# Altium footprint library MLACHM_M.PCBLIB: 91 footprints (part 5 of 7)
Each footprint in its own frame and in the unit in brackets; x right, y up, seen from the top. Pads: shape width x height; smd on the part's side, far side on the other; paste and mask are expansions set on the pad; w line width, h text height; cw(c..) or ccw(c..) is an arc to the next point about the centre after c.
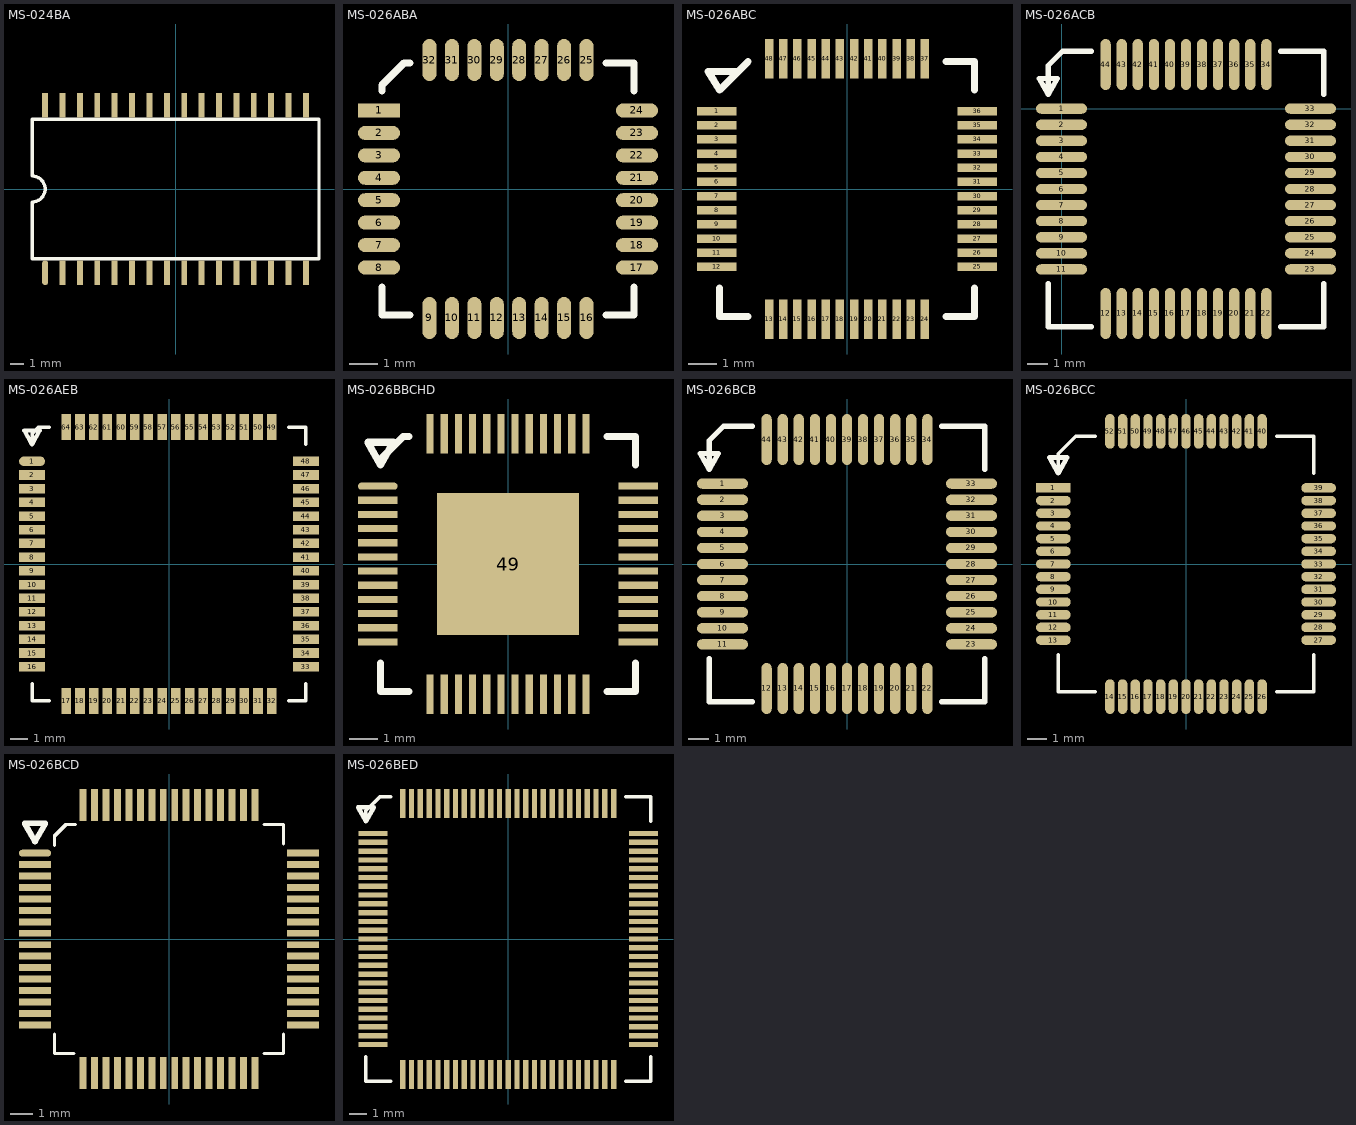
[diagram p4: the footprints below, top view; thin cyan lines are the x and y axes]

## MS-024BA [mil]
pads (32):
  oval 17x71 smd: 1(-375,-240.62)
  rect 17x71 smd: 2(-325,-240.62) 3(-275,-240.62) 4(-225,-240.62) 5(-175,-240.62) 6(-125,-240.62) 7(-75,-240.62) 8(-25,-240.62) 9(25,-240.62) 10(75,-240.62) 11(125,-240.62) 12(175,-240.62) 13(225,-240.62) 14(275,-240.62) 15(325,-240.62) 16(375,-240.62) 17(375,240.62) 18(325,240.62) 19(275,240.62) 20(225,240.62) 21(175,240.62) 22(125,240.62) 23(75,240.62) 24(25,240.62) 25(-25,240.62) 26(-75,240.62) 27(-125,240.62) 28(-175,240.62) 29(-225,240.62) 30(-275,240.62) 31(-325,240.62) 32(-375,240.62)
TopOverlay:
  lines w10: -412.5,-200 -412.5,-37.5 ccw(c-412.5,0) -412.5,37.5 -412.5,200 412.5,200 412.5,-200 -412.5,-200

## MS-026ABA [mm]
pads (32):
  rect 1.5x0.5 smd: 1(-4.6,2.8)
  oval 1.5x0.5 smd: 2(-4.6,2) 3(-4.6,1.2) 4(-4.6,0.4) 5(-4.6,-0.4) 6(-4.6,-1.2) 7(-4.6,-2) 8(-4.6,-2.8) 17(4.6,-2.8) 18(4.6,-2) 19(4.6,-1.2) 20(4.6,-0.4) 21(4.6,0.4) 22(4.6,1.2) 23(4.6,2) 24(4.6,2.8)
  oval 0.5x1.5 smd: 9(-2.8,-4.6) 10(-2,-4.6) 11(-1.2,-4.6) 12(-0.4,-4.6) 13(0.4,-4.6) 14(1.2,-4.6) 15(2,-4.6) 16(2.8,-4.6) 25(2.8,4.6) 26(2,4.6) 27(1.2,4.6) 28(0.4,4.6) 29(-0.4,4.6) 30(-1.2,4.6) 31(-2,4.6) 32(-2.8,4.6)
TopOverlay:
  lines w0.254: -4.5,-3.5 -4.5,-4.5 -3.5,-4.5 ; -4.5,3.5 -4.5,3.7 -3.7,4.5 -3.5,4.5 ; 3.5,-4.5 4.5,-4.5 4.5,-3.5 ; 3.5,4.5 4.5,4.5 4.5,3.5

## MS-026ABC [mm]
pads (48):
  rect 1.4x0.3 smd: 1(-4.6,2.75) 2(-4.6,2.25) 3(-4.6,1.75) 4(-4.6,1.25) 5(-4.6,0.75) 6(-4.6,0.25) 7(-4.6,-0.25) 8(-4.6,-0.75) 9(-4.6,-1.25) 10(-4.6,-1.75) 11(-4.6,-2.25) 12(-4.6,-2.75) 25(4.6,-2.75) 26(4.6,-2.25) 27(4.6,-1.75) 28(4.6,-1.25) 29(4.6,-0.75) 30(4.6,-0.25) 31(4.6,0.25) 32(4.6,0.75) 33(4.6,1.25) 34(4.6,1.75) 35(4.6,2.25) 36(4.6,2.75)
  rect 0.3x1.4 smd: 13(-2.75,-4.6) 14(-2.25,-4.6) 15(-1.75,-4.6) 16(-1.25,-4.6) 17(-0.75,-4.6) 18(-0.25,-4.6) 19(0.25,-4.6) 20(0.75,-4.6) 21(1.25,-4.6) 22(1.75,-4.6) 23(2.25,-4.6) 24(2.75,-4.6) 37(2.75,4.6) 38(2.25,4.6) 39(1.75,4.6) 40(1.25,4.6) 41(0.75,4.6) 42(0.25,4.6) 43(-0.25,4.6) 44(-0.75,4.6) 45(-1.25,4.6) 46(-1.75,4.6) 47(-2.25,4.6) 48(-2.75,4.6)
TopOverlay:
  lines w0.254: -4.5,-3.5 -4.5,-4.5 -3.5,-4.5 ; -3.9,4.15 -4.9,4.15 -4.5,3.5 -3.5,4.5 ; 3.5,-4.5 4.5,-4.5 4.5,-3.5 ; 3.5,4.5 4.5,4.5 4.5,3.5
3D body: height 1.6, standoff 0, extent -3.5,-3.5 3.5,3.5
3D body: height 0.8, standoff 0, extent -4.6,2.65 -3.5,2.85
3D body: height 0.8, standoff 0, extent -4.6,2.15 -3.5,2.35
3D body: height 0.8, standoff 0, extent -4.6,1.65 -3.5,1.85
3D body: height 0.8, standoff 0, extent -4.6,1.15 -3.5,1.35
3D body: height 0.8, standoff 0, extent -4.6,-0.85 -3.5,-0.65
3D body: height 0.8, standoff 0, extent -4.6,-0.35 -3.5,-0.15
3D body: height 0.8, standoff 0, extent -4.6,0.15 -3.5,0.35
3D body: height 0.8, standoff 0, extent -4.6,0.65 -3.5,0.85
3D body: height 0.8, standoff 0, extent -4.6,-2.85 -3.5,-2.65
3D body: height 0.8, standoff 0, extent -4.6,-2.35 -3.5,-2.15
3D body: height 0.8, standoff 0, extent -4.6,-1.85 -3.5,-1.65
3D body: height 0.8, standoff 0, extent -4.6,-1.35 -3.5,-1.15
3D body: height 0.8, standoff 0, extent 1.15,-4.6 1.35,-3.5
3D body: height 0.8, standoff 0, extent 1.65,-4.6 1.85,-3.5
3D body: height 0.8, standoff 0, extent 2.15,-4.6 2.35,-3.5
3D body: height 0.8, standoff 0, extent 2.65,-4.6 2.85,-3.5
3D body: height 0.8, standoff 0, extent -0.85,-4.6 -0.65,-3.5
3D body: height 0.8, standoff 0, extent -0.35,-4.6 -0.15,-3.5
3D body: height 0.8, standoff 0, extent 0.15,-4.6 0.35,-3.5
3D body: height 0.8, standoff 0, extent 0.65,-4.6 0.85,-3.5
3D body: height 0.8, standoff 0, extent -1.35,-4.6 -1.15,-3.5
3D body: height 0.8, standoff 0, extent -1.85,-4.6 -1.65,-3.5
3D body: height 0.8, standoff 0, extent -2.35,-4.6 -2.15,-3.5
3D body: height 0.8, standoff 0, extent -2.85,-4.6 -2.65,-3.5
3D body: height 0.8, standoff 0, extent 3.5,1.15 4.6,1.35
3D body: height 0.8, standoff 0, extent 3.5,1.65 4.6,1.85
3D body: height 0.8, standoff 0, extent 3.5,2.15 4.6,2.35
3D body: height 0.8, standoff 0, extent 3.5,2.65 4.6,2.85
3D body: height 0.8, standoff 0, extent 3.5,-0.85 4.6,-0.65
3D body: height 0.8, standoff 0, extent 3.5,-0.35 4.6,-0.15
3D body: height 0.8, standoff 0, extent 3.5,0.15 4.6,0.35
3D body: height 0.8, standoff 0, extent 3.5,0.65 4.6,0.85
3D body: height 0.8, standoff 0, extent 3.5,-1.35 4.6,-1.15
3D body: height 0.8, standoff 0, extent 3.5,-1.85 4.6,-1.65
3D body: height 0.8, standoff 0, extent 3.5,-2.35 4.6,-2.15
3D body: height 0.8, standoff 0, extent 3.5,-2.85 4.6,-2.65
3D body: height 0.8, standoff 0, extent -1.35,3.5 -1.15,4.6
3D body: height 0.8, standoff 0, extent -1.85,3.5 -1.65,4.6
3D body: height 0.8, standoff 0, extent -2.35,3.5 -2.15,4.6
3D body: height 0.8, standoff 0, extent -2.85,3.5 -2.65,4.6
3D body: height 0.8, standoff 0, extent 0.65,3.5 0.85,4.6
3D body: height 0.8, standoff 0, extent 0.15,3.5 0.35,4.6
3D body: height 0.8, standoff 0, extent -0.35,3.5 -0.15,4.6
3D body: height 0.8, standoff 0, extent -0.85,3.5 -0.65,4.6
3D body: height 0.8, standoff 0, extent 1.15,3.5 1.35,4.6
3D body: height 0.8, standoff 0, extent 1.65,3.5 1.85,4.6
3D body: height 0.8, standoff 0, extent 2.15,3.5 2.35,4.6
3D body: height 0.8, standoff 0, extent 2.65,3.5 2.85,4.6

## MS-026ACB [mm]
pads (44):
  oval 2.54x0.508 smd mask+0.254: 1(0,0) 2(0,-0.8) 3(0,-1.6) 4(0,-2.4) 5(0,-3.2) 6(0,-4) 7(0,-4.8) 8(0,-5.6) 9(0,-6.4) 10(0,-7.2) 11(0,-8) 23(12.4,-8) 24(12.4,-7.2) 25(12.4,-6.4) 26(12.4,-5.6) 27(12.4,-4.8) 28(12.4,-4) 29(12.4,-3.2) 30(12.4,-2.4) 31(12.4,-1.6) 32(12.4,-0.8) 33(12.4,0)
  oval 0.508x2.54 smd mask+0.254: 12(2.2,-10.2) 13(3,-10.2) 14(3.8,-10.2) 15(4.6,-10.2) 16(5.4,-10.2) 17(6.2,-10.2) 18(7,-10.2) 19(7.8,-10.2) 20(8.6,-10.2) 21(9.4,-10.2) 22(10.2,-10.2) 34(10.2,2.2) 35(9.4,2.2) 36(8.6,2.2) 37(7.8,2.2) 38(7,2.2) 39(6.2,2.2) 40(5.4,2.2) 41(4.6,2.2) 42(3.8,2.2) 43(3,2.2) 44(2.2,2.2)
TopOverlay:
  lines w0.25: -1.108,1.499 -0.658,0.699 -0.208,1.499 -1.108,1.499
  lines w0.254: -0.658,-8.699 -0.658,-10.858 1.501,-10.858 ; -0.658,0.699 -0.658,2.147 0.053,2.858 1.501,2.858 ; 10.899,-10.858 13.058,-10.858 13.058,-8.699 ; 10.899,2.858 13.058,2.858 13.058,0.699
3D body: height 0.5, standoff 0, extent 9.9,1 10.5,2
3D body: height 0.5, standoff 0, extent 9.1,1 9.7,2
3D body: height 0.5, standoff 0, extent 8.3,1 8.9,2
3D body: height 0.5, standoff 0, extent 7.5,1 8.1,2
3D body: height 0.5, standoff 0, extent 6.7,1 7.3,2
3D body: height 0.5, standoff 0, extent 5.9,1 6.5,2
3D body: height 0.5, standoff 0, extent 5.1,1 5.7,2
3D body: height 0.5, standoff 0, extent 4.3,1 4.9,2
3D body: height 0.5, standoff 0, extent 3.5,1 4.1,2
3D body: height 0.5, standoff 0, extent 2.7,1 3.3,2
3D body: height 0.5, standoff 0, extent 1.9,1 2.5,2
3D body: height 0.5, standoff 0, extent 11.2,-8.3 12.2,-7.7
3D body: height 0.5, standoff 0, extent 11.2,-7.5 12.2,-6.9
3D body: height 0.5, standoff 0, extent 11.2,-6.7 12.2,-6.1
3D body: height 0.5, standoff 0, extent 11.2,-5.9 12.2,-5.3
3D body: height 0.5, standoff 0, extent 11.2,-5.1 12.2,-4.5
3D body: height 0.5, standoff 0, extent 11.2,-4.3 12.2,-3.7
3D body: height 0.5, standoff 0, extent 11.2,-3.5 12.2,-2.9
3D body: height 0.5, standoff 0, extent 11.2,-2.7 12.2,-2.1
3D body: height 0.5, standoff 0, extent 11.2,-1.9 12.2,-1.3
3D body: height 0.5, standoff 0, extent 11.2,-1.1 12.2,-0.5
3D body: height 0.5, standoff 0, extent 11.2,-0.3 12.2,0.3
3D body: height 0.5, standoff 0, extent 1.9,-10 2.5,-9
3D body: height 0.5, standoff 0, extent 2.7,-10 3.3,-9
3D body: height 0.5, standoff 0, extent 3.5,-10 4.1,-9
3D body: height 0.5, standoff 0, extent 4.3,-10 4.9,-9
3D body: height 0.5, standoff 0, extent 5.1,-10 5.7,-9
3D body: height 0.5, standoff 0, extent 5.9,-10 6.5,-9
3D body: height 0.5, standoff 0, extent 6.7,-10 7.3,-9
3D body: height 0.5, standoff 0, extent 7.5,-10 8.1,-9
3D body: height 0.5, standoff 0, extent 8.3,-10 8.9,-9
3D body: height 0.5, standoff 0, extent 9.1,-10 9.7,-9
3D body: height 0.5, standoff 0, extent 9.9,-10 10.5,-9
3D body: height 0.5, standoff 0, extent 0.2,-8.3 1.2,-7.7
3D body: height 0.5, standoff 0, extent 0.2,-7.5 1.2,-6.9
3D body: height 0.5, standoff 0, extent 0.2,-6.7 1.2,-6.1
3D body: height 0.5, standoff 0, extent 0.2,-5.9 1.2,-5.3
3D body: height 0.5, standoff 0, extent 0.2,-5.1 1.2,-4.5
3D body: height 0.5, standoff 0, extent 0.2,-4.3 1.2,-3.7
3D body: height 0.5, standoff 0, extent 0.2,-3.5 1.2,-2.9
3D body: height 0.5, standoff 0, extent 0.2,-2.7 1.2,-2.1
3D body: height 0.5, standoff 0, extent 0.2,-1.9 1.2,-1.3
3D body: height 0.5, standoff 0, extent 0.2,-1.1 1.2,-0.5
3D body: height 0.5, standoff 0, extent 0.2,-0.3 1.2,0.3
3D body: height 1.2, standoff 0, extent 1.2,-9 11.2,1

## MS-026AEB [mm]
pads (64):
  oval 1.524x0.559 smd: 1(-8,6)
  rect 1.524x0.559 smd: 2(-8,5.2) 3(-8,4.4) 4(-8,3.6) 5(-8,2.8) 6(-8,2) 7(-8,1.2) 8(-8,0.4) 9(-8,-0.4) 10(-8,-1.2) 11(-8,-2) 12(-8,-2.8) 13(-8,-3.6) 14(-8,-4.4) 15(-8,-5.2) 16(-8,-6) 33(8,-6) 34(8,-5.2) 35(8,-4.4) 36(8,-3.6) 37(8,-2.8) 38(8,-2) 39(8,-1.2) 40(8,-0.4) 41(8,0.4) 42(8,1.2) 43(8,2) 44(8,2.8) 45(8,3.6) 46(8,4.4) 47(8,5.2) 48(8,6)
  rect 0.559x1.524 smd: 17(-6,-8) 18(-5.2,-8) 19(-4.4,-8) 20(-3.6,-8) 21(-2.8,-8) 22(-2,-8) 23(-1.2,-8) 24(-0.4,-8) 25(0.4,-8) 26(1.2,-8) 27(2,-8) 28(2.8,-8) 29(3.6,-8) 30(4.4,-8) 31(5.2,-8) 32(6,-8) 49(6,8) 50(5.2,8) 51(4.4,8) 52(3.6,8) 53(2.8,8) 54(2,8) 55(1.2,8) 56(0.4,8) 57(-0.4,8) 58(-1.2,8) 59(-2,8) 60(-2.8,8) 61(-3.6,8) 62(-4.4,8) 63(-5.2,8) 64(-6,8)
TopOverlay:
  lines w0.203: -8,-7 -8,-8 -7,-8 ; -8,7 -8,7.6 -7.6,8 -7,8 ; 7,-8 8,-8 8,-7 ; 7,8 8,8 8,7
  lines w0.25: -8.45,7.8 -7.55,7.8 -8,7 -8.45,7.8

## MS-026BBCHD [mm]
pads (49):
  oval 1.397x0.254 smd mask+0.152: 1(-4.6,2.75)
  rect 1.397x0.254 smd mask+0.152: 2(-4.6,2.25) 3(-4.6,1.75) 4(-4.6,1.25) 5(-4.6,0.75) 6(-4.6,0.25) 7(-4.6,-0.25) 8(-4.6,-0.75) 9(-4.6,-1.25) 10(-4.6,-1.75) 11(-4.6,-2.25) 12(-4.6,-2.75) 25(4.6,-2.75) 26(4.6,-2.25) 27(4.6,-1.75) 28(4.6,-1.25) 29(4.6,-0.75) 30(4.6,-0.25) 31(4.6,0.25) 32(4.6,0.75) 33(4.6,1.25) 34(4.6,1.75) 35(4.6,2.25) 36(4.6,2.75)
  rect 0.254x1.397 smd mask+0.152: 13(-2.75,-4.6) 14(-2.25,-4.6) 15(-1.75,-4.6) 16(-1.25,-4.6) 17(-0.75,-4.6) 18(-0.25,-4.6) 19(0.25,-4.6) 20(0.75,-4.6) 21(1.25,-4.6) 22(1.75,-4.6) 23(2.25,-4.6) 24(2.75,-4.6) 37(2.75,4.6) 38(2.25,4.6) 39(1.75,4.6) 40(1.25,4.6) 41(0.75,4.6) 42(0.25,4.6) 43(-0.25,4.6) 44(-0.75,4.6) 45(-1.25,4.6) 46(-1.75,4.6) 47(-2.25,4.6) 48(-2.75,4.6)
  rect 5x5 smd: 49(0,0)
TopOverlay:
  lines w0.25: -4.95,4.3 -4.05,4.3 -4.5,3.5 -4.95,4.3
  lines w0.254: -4.5,-3.5 -4.5,-4.5 -3.5,-4.5 ; -4.5,3.5 -4.5,3.7 -3.7,4.5 -3.5,4.5 ; 3.5,-4.5 4.5,-4.5 4.5,-3.5 ; 3.5,4.5 4.5,4.5 4.5,3.5

## MS-026BCB [mm]
pads (44):
  oval 2.54x0.508 smd: 1(-6.2,4) 2(-6.2,3.2) 3(-6.2,2.4) 4(-6.2,1.6) 5(-6.2,0.8) 6(-6.2,0) 7(-6.2,-0.8) 8(-6.2,-1.6) 9(-6.2,-2.4) 10(-6.2,-3.2) 11(-6.2,-4) 23(6.2,-4) 24(6.2,-3.2) 25(6.2,-2.4) 26(6.2,-1.6) 27(6.2,-0.8) 28(6.2,0) 29(6.2,0.8) 30(6.2,1.6) 31(6.2,2.4) 32(6.2,3.2) 33(6.2,4)
  oval 0.508x2.54 smd: 12(-4,-6.2) 13(-3.2,-6.2) 14(-2.4,-6.2) 15(-1.6,-6.2) 16(-0.8,-6.2) 17(0,-6.2) 18(0.8,-6.2) 19(1.6,-6.2) 20(2.4,-6.2) 21(3.2,-6.2) 22(4,-6.2) 34(4,6.2) 35(3.2,6.2) 36(2.4,6.2) 37(1.6,6.2) 38(0.8,6.2) 39(0,6.2) 40(-0.8,6.2) 41(-1.6,6.2) 42(-2.4,6.2) 43(-3.2,6.2) 44(-4,6.2)
TopOverlay:
  lines w0.25: -7.308,5.499 -6.858,4.699 -6.408,5.499 -7.308,5.499
  lines w0.254: -6.858,-4.699 -6.858,-6.858 -4.699,-6.858 ; -6.858,4.699 -6.858,6.147 -6.147,6.858 -4.699,6.858 ; 4.699,-6.858 6.858,-6.858 6.858,-4.699 ; 4.699,6.858 6.858,6.858 6.858,4.699

## MS-026BCC [mil]
pads (52):
  rect 70x19 smd: 1(-267.72,153.54)
  oval 70x19 smd: 2(-267.72,127.95) 3(-267.72,102.36) 4(-267.72,76.77) 5(-267.72,51.18) 6(-267.72,25.59) 7(-267.72,0) 8(-267.72,-25.59) 9(-267.72,-51.18) 10(-267.72,-76.77) 11(-267.72,-102.36) 12(-267.72,-127.95) 13(-267.72,-153.54) 27(267.72,-153.54) 28(267.72,-127.95) 29(267.72,-102.36) 30(267.72,-76.77) 31(267.72,-51.18) 32(267.72,-25.59) 33(267.72,0) 34(267.72,25.59) 35(267.72,51.18) 36(267.72,76.77) 37(267.72,102.36) 38(267.72,127.95) 39(267.72,153.54)
  oval 19x70 smd: 14(-153.54,-267.72) 15(-127.95,-267.72) 16(-102.36,-267.72) 17(-76.77,-267.72) 18(-51.18,-267.72) 19(-25.59,-267.72) 20(0,-267.72) 21(25.59,-267.72) 22(51.18,-267.72) 23(76.77,-267.72) 24(102.36,-267.72) 25(127.95,-267.72) 26(153.54,-267.72) 40(153.54,267.72) 41(127.95,267.72) 42(102.36,267.72) 43(76.77,267.72) 44(51.18,267.72) 45(25.59,267.72) 46(0,267.72) 47(-25.59,267.72) 48(-51.18,267.72) 49(-76.77,267.72) 50(-102.36,267.72) 51(-127.95,267.72) 52(-153.54,267.72)
TopOverlay:
  lines w7.87: -257.87,-183.07 -257.87,-257.88 -183.07,-257.88 ; -257.87,183.07 -257.87,222.44 -222.44,257.88 -183.07,257.88 ; 183.07,-257.88 257.88,-257.88 257.88,-183.07 ; 183.07,257.88 257.88,257.88 257.88,183.07
  lines w9.84: -275.59,214.57 -240.16,214.57 -257.87,183.07 -275.59,214.57

## MS-026BCD [mm]
pads (64):
  oval 1.4x0.3 smd: 1(-5.85,3.75)
  rect 1.4x0.3 smd: 2(-5.85,3.25) 3(-5.85,2.75) 4(-5.85,2.25) 5(-5.85,1.75) 6(-5.85,1.25) 7(-5.85,0.75) 8(-5.85,0.25) 9(-5.85,-0.25) 10(-5.85,-0.75) 11(-5.85,-1.25) 12(-5.85,-1.75) 13(-5.85,-2.25) 14(-5.85,-2.75) 15(-5.85,-3.25) 16(-5.85,-3.75) 33(5.85,-3.75) 34(5.85,-3.25) 35(5.85,-2.75) 36(5.85,-2.25) 37(5.85,-1.75) 38(5.85,-1.25) 39(5.85,-0.75) 40(5.85,-0.25) 41(5.85,0.25) 42(5.85,0.75) 43(5.85,1.25) 44(5.85,1.75) 45(5.85,2.25) 46(5.85,2.75) 47(5.85,3.25) 48(5.85,3.75)
  rect 0.3x1.4 smd: 17(-3.75,-5.85) 18(-3.25,-5.85) 19(-2.75,-5.85) 20(-2.25,-5.85) 21(-1.75,-5.85) 22(-1.25,-5.85) 23(-0.75,-5.85) 24(-0.25,-5.85) 25(0.25,-5.85) 26(0.75,-5.85) 27(1.25,-5.85) 28(1.75,-5.85) 29(2.25,-5.85) 30(2.75,-5.85) 31(3.25,-5.85) 32(3.75,-5.85) 49(3.75,5.85) 50(3.25,5.85) 51(2.75,5.85) 52(2.25,5.85) 53(1.75,5.85) 54(1.25,5.85) 55(0.75,5.85) 56(0.25,5.85) 57(-0.25,5.85) 58(-0.75,5.85) 59(-1.25,5.85) 60(-1.75,5.85) 61(-2.25,5.85) 62(-2.75,5.85) 63(-3.25,5.85) 64(-3.75,5.85)
TopOverlay:
  lines w0.152: -5,-4.15 -5,-5 -4.15,-5 ; -5,4.1 -5,4.5 -4.5,5 -4.1,5 ; 4.15,-5 5,-5 5,-4.15 ; 4.15,5 5,5 5,4.15
  lines w0.25: -6.3,5.05 -5.4,5.05 -5.85,4.25 -6.3,5.05
3D body: height 1.2, standoff 0.1, extent -5,-5 5,5
3D body: height 0.15, standoff 0, extent -6,3.65 -5.25,3.85
3D body: height 0.63, standoff 0, extent -5.4,3.65 -5.25,3.85
3D body: height 0.63, standoff 0.38, extent -5.4,3.65 -5,3.85
3D body: height 0.63, standoff 0.38, extent -5.4,3.15 -5,3.35
3D body: height 0.63, standoff 0, extent -5.4,3.15 -5.25,3.35
3D body: height 0.15, standoff 0, extent -6,3.15 -5.25,3.35
3D body: height 0.63, standoff 0.38, extent -5.4,2.65 -5,2.85
3D body: height 0.63, standoff 0, extent -5.4,2.65 -5.25,2.85
3D body: height 0.15, standoff 0, extent -6,2.65 -5.25,2.85
3D body: height 0.63, standoff 0.38, extent -5.4,2.15 -5,2.35
3D body: height 0.63, standoff 0, extent -5.4,2.15 -5.25,2.35
3D body: height 0.15, standoff 0, extent -6,2.15 -5.25,2.35
3D body: height 0.63, standoff 0.38, extent -5.4,1.65 -5,1.85
3D body: height 0.63, standoff 0, extent -5.4,1.65 -5.25,1.85
3D body: height 0.15, standoff 0, extent -6,1.65 -5.25,1.85
3D body: height 0.63, standoff 0.38, extent -5.4,1.15 -5,1.35
3D body: height 0.63, standoff 0, extent -5.4,1.15 -5.25,1.35
3D body: height 0.15, standoff 0, extent -6,1.15 -5.25,1.35
3D body: height 0.63, standoff 0.38, extent -5.4,0.65 -5,0.85
3D body: height 0.63, standoff 0, extent -5.4,0.65 -5.25,0.85
3D body: height 0.15, standoff 0, extent -6,0.65 -5.25,0.85
3D body: height 0.63, standoff 0.38, extent -5.4,0.15 -5,0.35
3D body: height 0.63, standoff 0, extent -5.4,0.15 -5.25,0.35
3D body: height 0.15, standoff 0, extent -6,0.15 -5.25,0.35
3D body: height 0.63, standoff 0.38, extent -5.4,-0.35 -5,-0.15
3D body: height 0.63, standoff 0, extent -5.4,-0.35 -5.25,-0.15
3D body: height 0.15, standoff 0, extent -6,-0.35 -5.25,-0.15
3D body: height 0.63, standoff 0.38, extent -5.4,-0.85 -5,-0.65
3D body: height 0.63, standoff 0, extent -5.4,-0.85 -5.25,-0.65
3D body: height 0.15, standoff 0, extent -6,-0.85 -5.25,-0.65
3D body: height 0.63, standoff 0.38, extent -5.4,-1.35 -5,-1.15
3D body: height 0.63, standoff 0, extent -5.4,-1.35 -5.25,-1.15
3D body: height 0.15, standoff 0, extent -6,-1.35 -5.25,-1.15
3D body: height 0.63, standoff 0.38, extent -5.4,-1.85 -5,-1.65
3D body: height 0.63, standoff 0, extent -5.4,-1.85 -5.25,-1.65
3D body: height 0.15, standoff 0, extent -6,-1.85 -5.25,-1.65
3D body: height 0.63, standoff 0.38, extent -5.4,-2.35 -5,-2.15
3D body: height 0.63, standoff 0, extent -5.4,-2.35 -5.25,-2.15
3D body: height 0.15, standoff 0, extent -6,-2.35 -5.25,-2.15
3D body: height 0.63, standoff 0.38, extent -5.4,-2.85 -5,-2.65
3D body: height 0.63, standoff 0, extent -5.4,-2.85 -5.25,-2.65
3D body: height 0.15, standoff 0, extent -6,-2.85 -5.25,-2.65
3D body: height 0.63, standoff 0.38, extent -5.4,-3.35 -5,-3.15
3D body: height 0.63, standoff 0, extent -5.4,-3.35 -5.25,-3.15
3D body: height 0.15, standoff 0, extent -6,-3.35 -5.25,-3.15
3D body: height 0.63, standoff 0.38, extent -5.4,-3.85 -5,-3.65
3D body: height 0.63, standoff 0, extent -5.4,-3.85 -5.25,-3.65
3D body: height 0.15, standoff 0, extent -6,-3.85 -5.25,-3.65
3D body: height 0.15, standoff 0, extent 3.65,-6 3.85,-5.25
3D body: height 0.63, standoff 0, extent 3.65,-5.4 3.85,-5.25
3D body: height 0.63, standoff 0.38, extent 3.65,-5.4 3.85,-5
3D body: height 0.15, standoff 0, extent 3.15,-6 3.35,-5.25
3D body: height 0.63, standoff 0, extent 3.15,-5.4 3.35,-5.25
3D body: height 0.63, standoff 0.38, extent 3.15,-5.4 3.35,-5
3D body: height 0.15, standoff 0, extent 2.65,-6 2.85,-5.25
3D body: height 0.63, standoff 0, extent 2.65,-5.4 2.85,-5.25
3D body: height 0.63, standoff 0.38, extent 2.65,-5.4 2.85,-5
3D body: height 0.15, standoff 0, extent 2.15,-6 2.35,-5.25
3D body: height 0.63, standoff 0, extent 2.15,-5.4 2.35,-5.25
3D body: height 0.63, standoff 0.38, extent 2.15,-5.4 2.35,-5
3D body: height 0.15, standoff 0, extent 1.65,-6 1.85,-5.25
3D body: height 0.63, standoff 0, extent 1.65,-5.4 1.85,-5.25
3D body: height 0.63, standoff 0.38, extent 1.65,-5.4 1.85,-5
3D body: height 0.15, standoff 0, extent 1.15,-6 1.35,-5.25
3D body: height 0.63, standoff 0, extent 1.15,-5.4 1.35,-5.25
3D body: height 0.63, standoff 0.38, extent 1.15,-5.4 1.35,-5
3D body: height 0.15, standoff 0, extent 0.65,-6 0.85,-5.25
3D body: height 0.63, standoff 0, extent 0.65,-5.4 0.85,-5.25
3D body: height 0.63, standoff 0.38, extent 0.65,-5.4 0.85,-5
3D body: height 0.15, standoff 0, extent 0.15,-6 0.35,-5.25
3D body: height 0.63, standoff 0, extent 0.15,-5.4 0.35,-5.25
3D body: height 0.63, standoff 0.38, extent 0.15,-5.4 0.35,-5
3D body: height 0.15, standoff 0, extent -0.35,-6 -0.15,-5.25
3D body: height 0.63, standoff 0, extent -0.35,-5.4 -0.15,-5.25
3D body: height 0.63, standoff 0.38, extent -0.35,-5.4 -0.15,-5
3D body: height 0.15, standoff 0, extent -0.85,-6 -0.65,-5.25
3D body: height 0.63, standoff 0, extent -0.85,-5.4 -0.65,-5.25
3D body: height 0.63, standoff 0.38, extent -0.85,-5.4 -0.65,-5
3D body: height 0.15, standoff 0, extent -1.35,-6 -1.15,-5.25
3D body: height 0.63, standoff 0, extent -1.35,-5.4 -1.15,-5.25
3D body: height 0.63, standoff 0.38, extent -1.35,-5.4 -1.15,-5
3D body: height 0.15, standoff 0, extent -1.85,-6 -1.65,-5.25
3D body: height 0.63, standoff 0, extent -1.85,-5.4 -1.65,-5.25
3D body: height 0.63, standoff 0.38, extent -1.85,-5.4 -1.65,-5
3D body: height 0.15, standoff 0, extent -2.35,-6 -2.15,-5.25
3D body: height 0.63, standoff 0, extent -2.35,-5.4 -2.15,-5.25
3D body: height 0.63, standoff 0.38, extent -2.35,-5.4 -2.15,-5
3D body: height 0.15, standoff 0, extent -2.85,-6 -2.65,-5.25
3D body: height 0.63, standoff 0, extent -2.85,-5.4 -2.65,-5.25
3D body: height 0.63, standoff 0.38, extent -2.85,-5.4 -2.65,-5
3D body: height 0.15, standoff 0, extent -3.35,-6 -3.15,-5.25
3D body: height 0.63, standoff 0, extent -3.35,-5.4 -3.15,-5.25
3D body: height 0.63, standoff 0.38, extent -3.35,-5.4 -3.15,-5
3D body: height 0.63, standoff 0.38, extent -3.85,-5.4 -3.65,-5
3D body: height 0.63, standoff 0, extent -3.85,-5.4 -3.65,-5.25
3D body: height 0.15, standoff 0, extent -3.85,-6 -3.65,-5.25
3D body: height 0.15, standoff 0, extent 5.25,3.65 6,3.85
3D body: height 0.63, standoff 0, extent 5.25,3.65 5.4,3.85
3D body: height 0.63, standoff 0.38, extent 5,3.65 5.4,3.85
3D body: height 0.15, standoff 0, extent 5.25,3.15 6,3.35
3D body: height 0.63, standoff 0, extent 5.25,3.15 5.4,3.35
3D body: height 0.63, standoff 0.38, extent 5,3.15 5.4,3.35
3D body: height 0.15, standoff 0, extent 5.25,2.65 6,2.85
3D body: height 0.63, standoff 0, extent 5.25,2.65 5.4,2.85
3D body: height 0.63, standoff 0.38, extent 5,2.65 5.4,2.85
3D body: height 0.15, standoff 0, extent 5.25,2.15 6,2.35
3D body: height 0.63, standoff 0, extent 5.25,2.15 5.4,2.35
3D body: height 0.63, standoff 0.38, extent 5,2.15 5.4,2.35
3D body: height 0.15, standoff 0, extent 5.25,1.65 6,1.85
3D body: height 0.63, standoff 0, extent 5.25,1.65 5.4,1.85
3D body: height 0.63, standoff 0.38, extent 5,1.65 5.4,1.85
3D body: height 0.15, standoff 0, extent 5.25,1.15 6,1.35
3D body: height 0.63, standoff 0, extent 5.25,1.15 5.4,1.35
3D body: height 0.63, standoff 0.38, extent 5,1.15 5.4,1.35
3D body: height 0.15, standoff 0, extent 5.25,0.65 6,0.85
3D body: height 0.63, standoff 0, extent 5.25,0.65 5.4,0.85
3D body: height 0.63, standoff 0.38, extent 5,0.65 5.4,0.85
3D body: height 0.15, standoff 0, extent 5.25,0.15 6,0.35
3D body: height 0.63, standoff 0, extent 5.25,0.15 5.4,0.35
3D body: height 0.63, standoff 0.38, extent 5,0.15 5.4,0.35
3D body: height 0.15, standoff 0, extent 5.25,-0.35 6,-0.15
3D body: height 0.63, standoff 0, extent 5.25,-0.35 5.4,-0.15
3D body: height 0.63, standoff 0.38, extent 5,-0.35 5.4,-0.15
3D body: height 0.15, standoff 0, extent 5.25,-0.85 6,-0.65
3D body: height 0.63, standoff 0, extent 5.25,-0.85 5.4,-0.65
3D body: height 0.63, standoff 0.38, extent 5,-0.85 5.4,-0.65
3D body: height 0.15, standoff 0, extent 5.25,-1.35 6,-1.15
3D body: height 0.63, standoff 0, extent 5.25,-1.35 5.4,-1.15
3D body: height 0.63, standoff 0.38, extent 5,-1.35 5.4,-1.15
3D body: height 0.15, standoff 0, extent 5.25,-1.85 6,-1.65
3D body: height 0.63, standoff 0, extent 5.25,-1.85 5.4,-1.65
3D body: height 0.63, standoff 0.38, extent 5,-1.85 5.4,-1.65
3D body: height 0.15, standoff 0, extent 5.25,-2.35 6,-2.15
3D body: height 0.63, standoff 0, extent 5.25,-2.35 5.4,-2.15
3D body: height 0.63, standoff 0.38, extent 5,-2.35 5.4,-2.15
3D body: height 0.15, standoff 0, extent 5.25,-2.85 6,-2.65
3D body: height 0.63, standoff 0, extent 5.25,-2.85 5.4,-2.65
3D body: height 0.63, standoff 0.38, extent 5,-2.85 5.4,-2.65
3D body: height 0.15, standoff 0, extent 5.25,-3.35 6,-3.15
3D body: height 0.63, standoff 0, extent 5.25,-3.35 5.4,-3.15
3D body: height 0.63, standoff 0.38, extent 5,-3.35 5.4,-3.15
3D body: height 0.63, standoff 0.38, extent 5,-3.85 5.4,-3.65
3D body: height 0.63, standoff 0, extent 5.25,-3.85 5.4,-3.65
3D body: height 0.15, standoff 0, extent 5.25,-3.85 6,-3.65
3D body: height 0.15, standoff 0, extent -3.85,5.25 -3.65,6
3D body: height 0.63, standoff 0, extent -3.85,5.25 -3.65,5.4
3D body: height 0.63, standoff 0.38, extent -3.85,5 -3.65,5.4
3D body: height 0.15, standoff 0, extent -3.35,5.25 -3.15,6
3D body: height 0.63, standoff 0, extent -3.35,5.25 -3.15,5.4
3D body: height 0.63, standoff 0.38, extent -3.35,5 -3.15,5.4
3D body: height 0.15, standoff 0, extent -2.85,5.25 -2.65,6
3D body: height 0.63, standoff 0, extent -2.85,5.25 -2.65,5.4
3D body: height 0.63, standoff 0.38, extent -2.85,5 -2.65,5.4
3D body: height 0.15, standoff 0, extent -2.35,5.25 -2.15,6
3D body: height 0.63, standoff 0, extent -2.35,5.25 -2.15,5.4
3D body: height 0.63, standoff 0.38, extent -2.35,5 -2.15,5.4
3D body: height 0.15, standoff 0, extent -1.85,5.25 -1.65,6
3D body: height 0.63, standoff 0, extent -1.85,5.25 -1.65,5.4
3D body: height 0.63, standoff 0.38, extent -1.85,5 -1.65,5.4
3D body: height 0.15, standoff 0, extent -1.35,5.25 -1.15,6
3D body: height 0.63, standoff 0, extent -1.35,5.25 -1.15,5.4
3D body: height 0.63, standoff 0.38, extent -1.35,5 -1.15,5.4
3D body: height 0.15, standoff 0, extent -0.85,5.25 -0.65,6
3D body: height 0.63, standoff 0, extent -0.85,5.25 -0.65,5.4
3D body: height 0.63, standoff 0.38, extent -0.85,5 -0.65,5.4
3D body: height 0.15, standoff 0, extent -0.35,5.25 -0.15,6
3D body: height 0.63, standoff 0, extent -0.35,5.25 -0.15,5.4
3D body: height 0.63, standoff 0.38, extent -0.35,5 -0.15,5.4
3D body: height 0.15, standoff 0, extent 0.15,5.25 0.35,6
3D body: height 0.63, standoff 0, extent 0.15,5.25 0.35,5.4
3D body: height 0.63, standoff 0.38, extent 0.15,5 0.35,5.4
3D body: height 0.15, standoff 0, extent 0.65,5.25 0.85,6
3D body: height 0.63, standoff 0, extent 0.65,5.25 0.85,5.4
3D body: height 0.63, standoff 0.38, extent 0.65,5 0.85,5.4
3D body: height 0.15, standoff 0, extent 1.15,5.25 1.35,6
3D body: height 0.63, standoff 0, extent 1.15,5.25 1.35,5.4
3D body: height 0.63, standoff 0.38, extent 1.15,5 1.35,5.4
3D body: height 0.15, standoff 0, extent 1.65,5.25 1.85,6
3D body: height 0.63, standoff 0, extent 1.65,5.25 1.85,5.4
3D body: height 0.63, standoff 0.38, extent 1.65,5 1.85,5.4
3D body: height 0.15, standoff 0, extent 2.15,5.25 2.35,6
3D body: height 0.63, standoff 0, extent 2.15,5.25 2.35,5.4
3D body: height 0.63, standoff 0.38, extent 2.15,5 2.35,5.4
3D body: height 0.15, standoff 0, extent 2.65,5.25 2.85,6
3D body: height 0.63, standoff 0, extent 2.65,5.25 2.85,5.4
3D body: height 0.63, standoff 0.38, extent 2.65,5 2.85,5.4
3D body: height 0.15, standoff 0, extent 3.15,5.25 3.35,6
3D body: height 0.63, standoff 0, extent 3.15,5.25 3.35,5.4
3D body: height 0.63, standoff 0.38, extent 3.15,5 3.35,5.4
3D body: height 0.63, standoff 0.38, extent 3.65,5 3.85,5.4
3D body: height 0.63, standoff 0, extent 3.65,5.25 3.85,5.4
3D body: height 0.15, standoff 0, extent 3.65,5.25 3.85,6

## MS-026BED [mm]
pads (100):
  rect 1.651x0.3 smd mask+0.203: 1(-7.7,6) 2(-7.7,5.5) 3(-7.7,5) 4(-7.7,4.5) 5(-7.7,4) 6(-7.7,3.5) 7(-7.7,3) 8(-7.7,2.5) 9(-7.7,2) 10(-7.7,1.5) 11(-7.7,1) 12(-7.7,0.5) 13(-7.7,0) 14(-7.7,-0.5) 15(-7.7,-1) 16(-7.7,-1.5) 17(-7.7,-2) 18(-7.7,-2.5) 19(-7.7,-3) 20(-7.7,-3.5) 21(-7.7,-4) 22(-7.7,-4.5) 23(-7.7,-5) 24(-7.7,-5.5) 25(-7.7,-6) 51(7.7,-6) 52(7.7,-5.5) 53(7.7,-5) 54(7.7,-4.5) 55(7.7,-4) 56(7.7,-3.5) 57(7.7,-3) 58(7.7,-2.5) 59(7.7,-2) 60(7.7,-1.5) 61(7.7,-1) 62(7.7,-0.5) 63(7.7,0) 64(7.7,0.5) 65(7.7,1) 66(7.7,1.5) 67(7.7,2) 68(7.7,2.5) 69(7.7,3) 70(7.7,3.5) 71(7.7,4) 72(7.7,4.5) 73(7.7,5) 74(7.7,5.5) 75(7.7,6)
  rect 0.3x1.651 smd mask+0.203: 26(-6,-7.7) 27(-5.5,-7.7) 28(-5,-7.7) 29(-4.5,-7.7) 30(-4,-7.7) 31(-3.5,-7.7) 32(-3,-7.7) 33(-2.5,-7.7) 34(-2,-7.7) 35(-1.5,-7.7) 36(-1,-7.7) 37(-0.5,-7.7) 38(0,-7.7) 39(0.5,-7.7) 40(1,-7.7) 41(1.5,-7.7) 42(2,-7.7) 43(2.5,-7.7) 44(3,-7.7) 45(3.5,-7.7) 46(4,-7.7) 47(4.5,-7.7) 48(5,-7.7) 49(5.5,-7.7) 50(6,-7.7) 76(6,7.7) 77(5.5,7.7) 78(5,7.7) 79(4.5,7.7) 80(4,7.7) 81(3.5,7.7) 82(3,7.7) 83(2.5,7.7) 84(2,7.7) 85(1.5,7.7) 86(1,7.7) 87(0.5,7.7) 88(0,7.7) 89(-0.5,7.7) 90(-1,7.7) 91(-1.5,7.7) 92(-2,7.7) 93(-2.5,7.7) 94(-3,7.7) 95(-3.5,7.7) 96(-4,7.7) 97(-4.5,7.7) 98(-5,7.7) 99(-5.5,7.7) 100(-6,7.7)
TopOverlay:
  lines w0.2: -8.1,-6.7 -8.1,-8.1 -6.7,-8.1 ; -8.1,6.7 -8.1,7.3 -7.3,8.1 -6.7,8.1 ; 6.7,-8.1 8.1,-8.1 8.1,-6.7 ; 6.7,8.1 8.1,8.1 8.1,6.7
  lines w0.25: -8.55,7.5 -7.65,7.5 -8.1,6.7 -8.55,7.5
3D body: height 0.15, standoff 0, extent -7.85,5.9 -7.1,6.1
3D body: height 0.63, standoff 0, extent -7.25,5.9 -7.1,6.1
3D body: height 0.63, standoff 0.38, extent -7.25,5.9 -6.85,6.1
3D body: height 1.2, standoff 0.1, extent -7,-7 7,7
3D body: height 0.63, standoff 0.38, extent -7.25,5.4 -6.85,5.6
3D body: height 0.63, standoff 0, extent -7.25,5.4 -7.1,5.6
3D body: height 0.15, standoff 0, extent -7.85,5.4 -7.1,5.6
3D body: height 0.63, standoff 0.38, extent -7.25,4.9 -6.85,5.1
3D body: height 0.63, standoff 0, extent -7.25,4.9 -7.1,5.1
3D body: height 0.15, standoff 0, extent -7.85,4.9 -7.1,5.1
3D body: height 0.63, standoff 0.38, extent -7.25,4.4 -6.85,4.6
3D body: height 0.63, standoff 0, extent -7.25,4.4 -7.1,4.6
3D body: height 0.15, standoff 0, extent -7.85,4.4 -7.1,4.6
3D body: height 0.63, standoff 0.38, extent -7.25,3.9 -6.85,4.1
3D body: height 0.63, standoff 0, extent -7.25,3.9 -7.1,4.1
3D body: height 0.15, standoff 0, extent -7.85,3.9 -7.1,4.1
3D body: height 0.15, standoff 0, extent -7.85,1.4 -7.1,1.6
3D body: height 0.63, standoff 0, extent -7.25,1.4 -7.1,1.6
3D body: height 0.63, standoff 0.38, extent -7.25,1.4 -6.85,1.6
3D body: height 0.15, standoff 0, extent -7.85,1.9 -7.1,2.1
3D body: height 0.63, standoff 0, extent -7.25,1.9 -7.1,2.1
3D body: height 0.63, standoff 0.38, extent -7.25,1.9 -6.85,2.1
3D body: height 0.15, standoff 0, extent -7.85,2.4 -7.1,2.6
3D body: height 0.63, standoff 0, extent -7.25,2.4 -7.1,2.6
3D body: height 0.63, standoff 0.38, extent -7.25,2.4 -6.85,2.6
3D body: height 0.15, standoff 0, extent -7.85,2.9 -7.1,3.1
3D body: height 0.63, standoff 0, extent -7.25,2.9 -7.1,3.1
3D body: height 0.63, standoff 0.38, extent -7.25,2.9 -6.85,3.1
3D body: height 0.63, standoff 0.38, extent -7.25,3.4 -6.85,3.6
3D body: height 0.63, standoff 0, extent -7.25,3.4 -7.1,3.6
3D body: height 0.15, standoff 0, extent -7.85,3.4 -7.1,3.6
3D body: height 0.15, standoff 0, extent -7.85,-1.1 -7.1,-0.9
3D body: height 0.63, standoff 0, extent -7.25,-1.1 -7.1,-0.9
3D body: height 0.63, standoff 0.38, extent -7.25,-1.1 -6.85,-0.9
3D body: height 0.15, standoff 0, extent -7.85,-0.6 -7.1,-0.4
3D body: height 0.63, standoff 0, extent -7.25,-0.6 -7.1,-0.4
3D body: height 0.63, standoff 0.38, extent -7.25,-0.6 -6.85,-0.4
3D body: height 0.15, standoff 0, extent -7.85,-0.1 -7.1,0.1
3D body: height 0.63, standoff 0, extent -7.25,-0.1 -7.1,0.1
3D body: height 0.63, standoff 0.38, extent -7.25,-0.1 -6.85,0.1
3D body: height 0.15, standoff 0, extent -7.85,0.4 -7.1,0.6
3D body: height 0.63, standoff 0, extent -7.25,0.4 -7.1,0.6
3D body: height 0.63, standoff 0.38, extent -7.25,0.4 -6.85,0.6
3D body: height 0.63, standoff 0.38, extent -7.25,0.9 -6.85,1.1
3D body: height 0.63, standoff 0, extent -7.25,0.9 -7.1,1.1
3D body: height 0.15, standoff 0, extent -7.85,0.9 -7.1,1.1
3D body: height 0.15, standoff 0, extent -7.85,-3.6 -7.1,-3.4
3D body: height 0.63, standoff 0, extent -7.25,-3.6 -7.1,-3.4
3D body: height 0.63, standoff 0.38, extent -7.25,-3.6 -6.85,-3.4
3D body: height 0.15, standoff 0, extent -7.85,-3.1 -7.1,-2.9
3D body: height 0.63, standoff 0, extent -7.25,-3.1 -7.1,-2.9
3D body: height 0.63, standoff 0.38, extent -7.25,-3.1 -6.85,-2.9
3D body: height 0.15, standoff 0, extent -7.85,-2.6 -7.1,-2.4
3D body: height 0.63, standoff 0, extent -7.25,-2.6 -7.1,-2.4
3D body: height 0.63, standoff 0.38, extent -7.25,-2.6 -6.85,-2.4
3D body: height 0.15, standoff 0, extent -7.85,-2.1 -7.1,-1.9
3D body: height 0.63, standoff 0, extent -7.25,-2.1 -7.1,-1.9
3D body: height 0.63, standoff 0.38, extent -7.25,-2.1 -6.85,-1.9
3D body: height 0.63, standoff 0.38, extent -7.25,-1.6 -6.85,-1.4
3D body: height 0.63, standoff 0, extent -7.25,-1.6 -7.1,-1.4
3D body: height 0.15, standoff 0, extent -7.85,-1.6 -7.1,-1.4
3D body: height 0.15, standoff 0, extent -7.85,-6.1 -7.1,-5.9
3D body: height 0.63, standoff 0, extent -7.25,-6.1 -7.1,-5.9
3D body: height 0.63, standoff 0.38, extent -7.25,-6.1 -6.85,-5.9
3D body: height 0.15, standoff 0, extent -7.85,-5.6 -7.1,-5.4
3D body: height 0.63, standoff 0, extent -7.25,-5.6 -7.1,-5.4
3D body: height 0.63, standoff 0.38, extent -7.25,-5.6 -6.85,-5.4
3D body: height 0.15, standoff 0, extent -7.85,-5.1 -7.1,-4.9
3D body: height 0.63, standoff 0, extent -7.25,-5.1 -7.1,-4.9
3D body: height 0.63, standoff 0.38, extent -7.25,-5.1 -6.85,-4.9
3D body: height 0.15, standoff 0, extent -7.85,-4.6 -7.1,-4.4
3D body: height 0.63, standoff 0, extent -7.25,-4.6 -7.1,-4.4
3D body: height 0.63, standoff 0.38, extent -7.25,-4.6 -6.85,-4.4
3D body: height 0.63, standoff 0.38, extent -7.25,-4.1 -6.85,-3.9
3D body: height 0.63, standoff 0, extent -7.25,-4.1 -7.1,-3.9
3D body: height 0.15, standoff 0, extent -7.85,-4.1 -7.1,-3.9
3D body: height 0.15, standoff 0, extent 3.9,-7.85 4.1,-7.1
3D body: height 0.63, standoff 0, extent 3.9,-7.25 4.1,-7.1
3D body: height 0.63, standoff 0.38, extent 3.9,-7.25 4.1,-6.85
3D body: height 0.63, standoff 0.38, extent 4.4,-7.25 4.6,-6.85
3D body: height 0.63, standoff 0, extent 4.4,-7.25 4.6,-7.1
3D body: height 0.15, standoff 0, extent 4.4,-7.85 4.6,-7.1
3D body: height 0.63, standoff 0.38, extent 4.9,-7.25 5.1,-6.85
3D body: height 0.63, standoff 0, extent 4.9,-7.25 5.1,-7.1
3D body: height 0.15, standoff 0, extent 4.9,-7.85 5.1,-7.1
3D body: height 0.63, standoff 0.38, extent 5.4,-7.25 5.6,-6.85
3D body: height 0.63, standoff 0, extent 5.4,-7.25 5.6,-7.1
3D body: height 0.15, standoff 0, extent 5.4,-7.85 5.6,-7.1
3D body: height 0.63, standoff 0.38, extent 5.9,-7.25 6.1,-6.85
3D body: height 0.63, standoff 0, extent 5.9,-7.25 6.1,-7.1
3D body: height 0.15, standoff 0, extent 5.9,-7.85 6.1,-7.1
3D body: height 0.15, standoff 0, extent 1.4,-7.85 1.6,-7.1
3D body: height 0.63, standoff 0, extent 1.4,-7.25 1.6,-7.1
3D body: height 0.63, standoff 0.38, extent 1.4,-7.25 1.6,-6.85
3D body: height 0.63, standoff 0.38, extent 1.9,-7.25 2.1,-6.85
3D body: height 0.63, standoff 0, extent 1.9,-7.25 2.1,-7.1
3D body: height 0.15, standoff 0, extent 1.9,-7.85 2.1,-7.1
3D body: height 0.63, standoff 0.38, extent 2.4,-7.25 2.6,-6.85
3D body: height 0.63, standoff 0, extent 2.4,-7.25 2.6,-7.1
3D body: height 0.15, standoff 0, extent 2.4,-7.85 2.6,-7.1
3D body: height 0.63, standoff 0.38, extent 2.9,-7.25 3.1,-6.85
3D body: height 0.63, standoff 0, extent 2.9,-7.25 3.1,-7.1
3D body: height 0.15, standoff 0, extent 2.9,-7.85 3.1,-7.1
3D body: height 0.63, standoff 0.38, extent 3.4,-7.25 3.6,-6.85
3D body: height 0.63, standoff 0, extent 3.4,-7.25 3.6,-7.1
3D body: height 0.15, standoff 0, extent 3.4,-7.85 3.6,-7.1
3D body: height 0.15, standoff 0, extent -1.1,-7.85 -0.9,-7.1
3D body: height 0.63, standoff 0, extent -1.1,-7.25 -0.9,-7.1
3D body: height 0.63, standoff 0.38, extent -1.1,-7.25 -0.9,-6.85
3D body: height 0.63, standoff 0.38, extent -0.6,-7.25 -0.4,-6.85
3D body: height 0.63, standoff 0, extent -0.6,-7.25 -0.4,-7.1
3D body: height 0.15, standoff 0, extent -0.6,-7.85 -0.4,-7.1
3D body: height 0.63, standoff 0.38, extent -0.1,-7.25 0.1,-6.85
3D body: height 0.63, standoff 0, extent -0.1,-7.25 0.1,-7.1
3D body: height 0.15, standoff 0, extent -0.1,-7.85 0.1,-7.1
3D body: height 0.63, standoff 0.38, extent 0.4,-7.25 0.6,-6.85
3D body: height 0.63, standoff 0, extent 0.4,-7.25 0.6,-7.1
3D body: height 0.15, standoff 0, extent 0.4,-7.85 0.6,-7.1
3D body: height 0.63, standoff 0.38, extent 0.9,-7.25 1.1,-6.85
3D body: height 0.63, standoff 0, extent 0.9,-7.25 1.1,-7.1
3D body: height 0.15, standoff 0, extent 0.9,-7.85 1.1,-7.1
3D body: height 0.15, standoff 0, extent -3.6,-7.85 -3.4,-7.1
3D body: height 0.63, standoff 0, extent -3.6,-7.25 -3.4,-7.1
3D body: height 0.63, standoff 0.38, extent -3.6,-7.25 -3.4,-6.85
3D body: height 0.63, standoff 0.38, extent -3.1,-7.25 -2.9,-6.85
3D body: height 0.63, standoff 0, extent -3.1,-7.25 -2.9,-7.1
3D body: height 0.15, standoff 0, extent -3.1,-7.85 -2.9,-7.1
3D body: height 0.63, standoff 0.38, extent -2.6,-7.25 -2.4,-6.85
3D body: height 0.63, standoff 0, extent -2.6,-7.25 -2.4,-7.1
3D body: height 0.15, standoff 0, extent -2.6,-7.85 -2.4,-7.1
3D body: height 0.63, standoff 0.38, extent -2.1,-7.25 -1.9,-6.85
3D body: height 0.63, standoff 0, extent -2.1,-7.25 -1.9,-7.1
3D body: height 0.15, standoff 0, extent -2.1,-7.85 -1.9,-7.1
3D body: height 0.63, standoff 0.38, extent -1.6,-7.25 -1.4,-6.85
3D body: height 0.63, standoff 0, extent -1.6,-7.25 -1.4,-7.1
3D body: height 0.15, standoff 0, extent -1.6,-7.85 -1.4,-7.1
3D body: height 0.15, standoff 0, extent -4.1,-7.85 -3.9,-7.1
3D body: height 0.63, standoff 0, extent -4.1,-7.25 -3.9,-7.1
3D body: height 0.63, standoff 0.38, extent -4.1,-7.25 -3.9,-6.85
3D body: height 0.15, standoff 0, extent -4.6,-7.85 -4.4,-7.1
3D body: height 0.63, standoff 0, extent -4.6,-7.25 -4.4,-7.1
3D body: height 0.63, standoff 0.38, extent -4.6,-7.25 -4.4,-6.85
3D body: height 0.15, standoff 0, extent -5.1,-7.85 -4.9,-7.1
3D body: height 0.63, standoff 0, extent -5.1,-7.25 -4.9,-7.1
3D body: height 0.63, standoff 0.38, extent -5.1,-7.25 -4.9,-6.85
3D body: height 0.15, standoff 0, extent -5.6,-7.85 -5.4,-7.1
3D body: height 0.63, standoff 0, extent -5.6,-7.25 -5.4,-7.1
3D body: height 0.63, standoff 0.38, extent -5.6,-7.25 -5.4,-6.85
3D body: height 0.63, standoff 0.38, extent -6.1,-7.25 -5.9,-6.85
3D body: height 0.63, standoff 0, extent -6.1,-7.25 -5.9,-7.1
3D body: height 0.15, standoff 0, extent -6.1,-7.85 -5.9,-7.1
3D body: height 0.15, standoff 0, extent 7.1,3.9 7.85,4.1
3D body: height 0.63, standoff 0, extent 7.1,3.9 7.25,4.1
3D body: height 0.63, standoff 0.38, extent 6.85,3.9 7.25,4.1
3D body: height 0.63, standoff 0.38, extent 6.85,4.4 7.25,4.6
3D body: height 0.63, standoff 0, extent 7.1,4.4 7.25,4.6
3D body: height 0.15, standoff 0, extent 7.1,4.4 7.85,4.6
3D body: height 0.63, standoff 0.38, extent 6.85,4.9 7.25,5.1
3D body: height 0.63, standoff 0, extent 7.1,4.9 7.25,5.1
3D body: height 0.15, standoff 0, extent 7.1,4.9 7.85,5.1
3D body: height 0.63, standoff 0.38, extent 6.85,5.4 7.25,5.6
3D body: height 0.63, standoff 0, extent 7.1,5.4 7.25,5.6
3D body: height 0.15, standoff 0, extent 7.1,5.4 7.85,5.6
3D body: height 0.63, standoff 0.38, extent 6.85,5.9 7.25,6.1
3D body: height 0.63, standoff 0, extent 7.1,5.9 7.25,6.1
3D body: height 0.15, standoff 0, extent 7.1,5.9 7.85,6.1
3D body: height 0.15, standoff 0, extent 7.1,1.4 7.85,1.6
3D body: height 0.63, standoff 0, extent 7.1,1.4 7.25,1.6
3D body: height 0.63, standoff 0.38, extent 6.85,1.4 7.25,1.6
3D body: height 0.63, standoff 0.38, extent 6.85,1.9 7.25,2.1
3D body: height 0.63, standoff 0, extent 7.1,1.9 7.25,2.1
3D body: height 0.15, standoff 0, extent 7.1,1.9 7.85,2.1
3D body: height 0.63, standoff 0.38, extent 6.85,2.4 7.25,2.6
3D body: height 0.63, standoff 0, extent 7.1,2.4 7.25,2.6
3D body: height 0.15, standoff 0, extent 7.1,2.4 7.85,2.6
3D body: height 0.63, standoff 0.38, extent 6.85,2.9 7.25,3.1
3D body: height 0.63, standoff 0, extent 7.1,2.9 7.25,3.1
3D body: height 0.15, standoff 0, extent 7.1,2.9 7.85,3.1
3D body: height 0.63, standoff 0.38, extent 6.85,3.4 7.25,3.6
3D body: height 0.63, standoff 0, extent 7.1,3.4 7.25,3.6
3D body: height 0.15, standoff 0, extent 7.1,3.4 7.85,3.6
3D body: height 0.15, standoff 0, extent 7.1,-1.1 7.85,-0.9
3D body: height 0.63, standoff 0, extent 7.1,-1.1 7.25,-0.9
3D body: height 0.63, standoff 0.38, extent 6.85,-1.1 7.25,-0.9
3D body: height 0.63, standoff 0.38, extent 6.85,-0.6 7.25,-0.4
3D body: height 0.63, standoff 0, extent 7.1,-0.6 7.25,-0.4
3D body: height 0.15, standoff 0, extent 7.1,-0.6 7.85,-0.4
3D body: height 0.63, standoff 0.38, extent 6.85,-0.1 7.25,0.1
3D body: height 0.63, standoff 0, extent 7.1,-0.1 7.25,0.1
3D body: height 0.15, standoff 0, extent 7.1,-0.1 7.85,0.1
3D body: height 0.63, standoff 0.38, extent 6.85,0.4 7.25,0.6
3D body: height 0.63, standoff 0, extent 7.1,0.4 7.25,0.6
3D body: height 0.15, standoff 0, extent 7.1,0.4 7.85,0.6
3D body: height 0.63, standoff 0.38, extent 6.85,0.9 7.25,1.1
3D body: height 0.63, standoff 0, extent 7.1,0.9 7.25,1.1
3D body: height 0.15, standoff 0, extent 7.1,0.9 7.85,1.1
3D body: height 0.15, standoff 0, extent 7.1,-3.6 7.85,-3.4
3D body: height 0.63, standoff 0, extent 7.1,-3.6 7.25,-3.4
3D body: height 0.63, standoff 0.38, extent 6.85,-3.6 7.25,-3.4
3D body: height 0.63, standoff 0.38, extent 6.85,-3.1 7.25,-2.9
3D body: height 0.63, standoff 0, extent 7.1,-3.1 7.25,-2.9
3D body: height 0.15, standoff 0, extent 7.1,-3.1 7.85,-2.9
3D body: height 0.63, standoff 0.38, extent 6.85,-2.6 7.25,-2.4
3D body: height 0.63, standoff 0, extent 7.1,-2.6 7.25,-2.4
3D body: height 0.15, standoff 0, extent 7.1,-2.6 7.85,-2.4
3D body: height 0.63, standoff 0.38, extent 6.85,-2.1 7.25,-1.9
3D body: height 0.63, standoff 0, extent 7.1,-2.1 7.25,-1.9
3D body: height 0.15, standoff 0, extent 7.1,-2.1 7.85,-1.9
3D body: height 0.63, standoff 0.38, extent 6.85,-1.6 7.25,-1.4
3D body: height 0.63, standoff 0, extent 7.1,-1.6 7.25,-1.4
3D body: height 0.15, standoff 0, extent 7.1,-1.6 7.85,-1.4
3D body: height 0.15, standoff 0, extent 7.1,-4.1 7.85,-3.9
3D body: height 0.63, standoff 0, extent 7.1,-4.1 7.25,-3.9
3D body: height 0.63, standoff 0.38, extent 6.85,-4.1 7.25,-3.9
3D body: height 0.15, standoff 0, extent 7.1,-4.6 7.85,-4.4
3D body: height 0.63, standoff 0, extent 7.1,-4.6 7.25,-4.4
3D body: height 0.63, standoff 0.38, extent 6.85,-4.6 7.25,-4.4
3D body: height 0.15, standoff 0, extent 7.1,-5.1 7.85,-4.9
3D body: height 0.63, standoff 0, extent 7.1,-5.1 7.25,-4.9
3D body: height 0.63, standoff 0.38, extent 6.85,-5.1 7.25,-4.9
3D body: height 0.15, standoff 0, extent 7.1,-5.6 7.85,-5.4
3D body: height 0.63, standoff 0, extent 7.1,-5.6 7.25,-5.4
3D body: height 0.63, standoff 0.38, extent 6.85,-5.6 7.25,-5.4
3D body: height 0.63, standoff 0.38, extent 6.85,-6.1 7.25,-5.9
3D body: height 0.63, standoff 0, extent 7.1,-6.1 7.25,-5.9
3D body: height 0.15, standoff 0, extent 7.1,-6.1 7.85,-5.9
3D body: height 0.15, standoff 0, extent -4.1,7.1 -3.9,7.85
3D body: height 0.63, standoff 0, extent -4.1,7.1 -3.9,7.25
3D body: height 0.63, standoff 0.38, extent -4.1,6.85 -3.9,7.25
3D body: height 0.63, standoff 0.38, extent -4.6,6.85 -4.4,7.25
3D body: height 0.63, standoff 0, extent -4.6,7.1 -4.4,7.25
3D body: height 0.15, standoff 0, extent -4.6,7.1 -4.4,7.85
3D body: height 0.63, standoff 0.38, extent -5.1,6.85 -4.9,7.25
3D body: height 0.63, standoff 0, extent -5.1,7.1 -4.9,7.25
3D body: height 0.15, standoff 0, extent -5.1,7.1 -4.9,7.85
3D body: height 0.63, standoff 0.38, extent -5.6,6.85 -5.4,7.25
3D body: height 0.63, standoff 0, extent -5.6,7.1 -5.4,7.25
3D body: height 0.15, standoff 0, extent -5.6,7.1 -5.4,7.85
3D body: height 0.63, standoff 0.38, extent -6.1,6.85 -5.9,7.25
3D body: height 0.63, standoff 0, extent -6.1,7.1 -5.9,7.25
3D body: height 0.15, standoff 0, extent -6.1,7.1 -5.9,7.85
3D body: height 0.15, standoff 0, extent -1.6,7.1 -1.4,7.85
3D body: height 0.63, standoff 0, extent -1.6,7.1 -1.4,7.25
3D body: height 0.63, standoff 0.38, extent -1.6,6.85 -1.4,7.25
3D body: height 0.63, standoff 0.38, extent -2.1,6.85 -1.9,7.25
3D body: height 0.63, standoff 0, extent -2.1,7.1 -1.9,7.25
3D body: height 0.15, standoff 0, extent -2.1,7.1 -1.9,7.85
3D body: height 0.63, standoff 0.38, extent -2.6,6.85 -2.4,7.25
3D body: height 0.63, standoff 0, extent -2.6,7.1 -2.4,7.25
3D body: height 0.15, standoff 0, extent -2.6,7.1 -2.4,7.85
3D body: height 0.63, standoff 0.38, extent -3.1,6.85 -2.9,7.25
3D body: height 0.63, standoff 0, extent -3.1,7.1 -2.9,7.25
3D body: height 0.15, standoff 0, extent -3.1,7.1 -2.9,7.85
3D body: height 0.63, standoff 0.38, extent -3.6,6.85 -3.4,7.25
3D body: height 0.63, standoff 0, extent -3.6,7.1 -3.4,7.25
3D body: height 0.15, standoff 0, extent -3.6,7.1 -3.4,7.85
3D body: height 0.15, standoff 0, extent 0.9,7.1 1.1,7.85
3D body: height 0.63, standoff 0, extent 0.9,7.1 1.1,7.25
3D body: height 0.63, standoff 0.38, extent 0.9,6.85 1.1,7.25
3D body: height 0.63, standoff 0.38, extent 0.4,6.85 0.6,7.25
3D body: height 0.63, standoff 0, extent 0.4,7.1 0.6,7.25
3D body: height 0.15, standoff 0, extent 0.4,7.1 0.6,7.85
3D body: height 0.63, standoff 0.38, extent -0.1,6.85 0.1,7.25
3D body: height 0.63, standoff 0, extent -0.1,7.1 0.1,7.25
3D body: height 0.15, standoff 0, extent -0.1,7.1 0.1,7.85
3D body: height 0.63, standoff 0.38, extent -0.6,6.85 -0.4,7.25
3D body: height 0.63, standoff 0, extent -0.6,7.1 -0.4,7.25
3D body: height 0.15, standoff 0, extent -0.6,7.1 -0.4,7.85
3D body: height 0.63, standoff 0.38, extent -1.1,6.85 -0.9,7.25
3D body: height 0.63, standoff 0, extent -1.1,7.1 -0.9,7.25
3D body: height 0.15, standoff 0, extent -1.1,7.1 -0.9,7.85
3D body: height 0.15, standoff 0, extent 3.4,7.1 3.6,7.85
3D body: height 0.63, standoff 0, extent 3.4,7.1 3.6,7.25
3D body: height 0.63, standoff 0.38, extent 3.4,6.85 3.6,7.25
3D body: height 0.63, standoff 0.38, extent 2.9,6.85 3.1,7.25
3D body: height 0.63, standoff 0, extent 2.9,7.1 3.1,7.25
3D body: height 0.15, standoff 0, extent 2.9,7.1 3.1,7.85
3D body: height 0.63, standoff 0.38, extent 2.4,6.85 2.6,7.25
3D body: height 0.63, standoff 0, extent 2.4,7.1 2.6,7.25
3D body: height 0.15, standoff 0, extent 2.4,7.1 2.6,7.85
3D body: height 0.63, standoff 0.38, extent 1.9,6.85 2.1,7.25
3D body: height 0.63, standoff 0, extent 1.9,7.1 2.1,7.25
3D body: height 0.15, standoff 0, extent 1.9,7.1 2.1,7.85
3D body: height 0.63, standoff 0.38, extent 1.4,6.85 1.6,7.25
3D body: height 0.63, standoff 0, extent 1.4,7.1 1.6,7.25
3D body: height 0.15, standoff 0, extent 1.4,7.1 1.6,7.85
3D body: height 0.15, standoff 0, extent 3.9,7.1 4.1,7.85
3D body: height 0.63, standoff 0, extent 3.9,7.1 4.1,7.25
3D body: height 0.63, standoff 0.38, extent 3.9,6.85 4.1,7.25
3D body: height 0.15, standoff 0, extent 4.4,7.1 4.6,7.85
3D body: height 0.63, standoff 0, extent 4.4,7.1 4.6,7.25
3D body: height 0.63, standoff 0.38, extent 4.4,6.85 4.6,7.25
3D body: height 0.15, standoff 0, extent 4.9,7.1 5.1,7.85
3D body: height 0.63, standoff 0, extent 4.9,7.1 5.1,7.25
3D body: height 0.63, standoff 0.38, extent 4.9,6.85 5.1,7.25
3D body: height 0.15, standoff 0, extent 5.4,7.1 5.6,7.85
3D body: height 0.63, standoff 0, extent 5.4,7.1 5.6,7.25
3D body: height 0.63, standoff 0.38, extent 5.4,6.85 5.6,7.25
3D body: height 0.63, standoff 0.38, extent 5.9,6.85 6.1,7.25
3D body: height 0.63, standoff 0, extent 5.9,7.1 6.1,7.25
3D body: height 0.15, standoff 0, extent 5.9,7.1 6.1,7.85